# Altium footprint library SAMA5D27-SOM1-MFG-03.PcbLib: 21 footprints (part 2 of 2)
Each footprint in its own frame and in the unit in brackets; x right, y up, seen from the top. Pads: shape width x height; smd on the part's side, far side on the other; paste and mask are expansions set on the pad; w line width, h text height; cw(c..) or ccw(c..) is an arc to the next point about the centre after c.
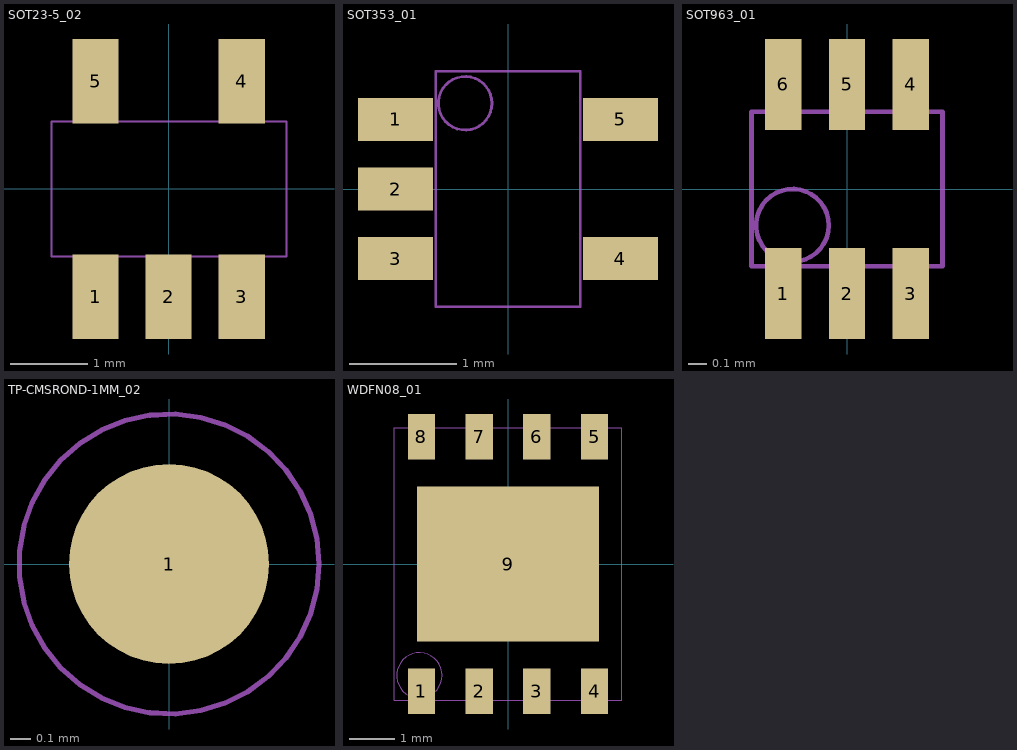
[diagram p1: the footprints below, top view; thin cyan lines are the x and y axes]

## SOT23-5_02 [mm] "SOT23-5_02"
pads (5):
  rect 0.6x1.1 smd: 1(-0.95,-1.405) 2(0,-1.405) 3(0.95,-1.405) 4(0.95,1.395) 5(-0.95,1.395)
Mechanical 16:
  lines w0.025: -1.52,-0.88 1.53,-0.88 1.53,0.87 -1.52,0.87 -1.52,-0.88
Mechanical 29:
  text "1" at -0.95,-1.005 h0.5
  text "3" at 0.95,-1.005 h0.5
  text "2" at 0,-1.005 h0.5
  text "4" at 0.95,1.795 h0.5
  text "5" at -0.95,1.795 h0.5

## SOT353_01 [mm] "SOT353_01"
pads (5):
  rect 0.7x0.4 smd: 1(-1.05,0.65) 2(-1.05,0) 3(-1.05,-0.65) 4(1.05,-0.65) 5(1.05,0.65)
Mechanical 16:
  circle w0.025: c-0.4,0.8 r0.25
  lines w0.025: -0.675,-1.1 -0.675,1.1 0,1.1 0.675,1.1 0.675,-1.1 -0.675,-1.1
Mechanical 29:
  text "1" at -1.697,0.125 h0.64
  text "3" at -1.697,-1.525 h0.64
  text "2" at -1.697,-0.726 h0.64
  text "4" at 2.053,-1.525 h0.64
  text "5" at 2.053,-0.125 h0.64

## SOT963_01 [mm] "SOT963_01"
pads (6):
  rect 0.2x0.5 smd: 1(-0.35,-0.575) 2(0,-0.575) 3(0.35,-0.575) 4(0.35,0.575) 5(0,0.575) 6(-0.35,0.575)
Mechanical 16:
  circle w0.025: c-0.3,-0.2 r0.2
  lines w0.025: -0.525,-0.425 -0.525,0.425 0.525,0.425 0.525,-0.425 -0.525,-0.425
Mechanical 29:
  text "4" at 0.553,1.383 h0.5
  text "1" at -0.197,-1.217 h0.5
  text "3" at 0.503,-1.217 h0.5
  text "5" at 0.203,1.383 h0.5
  text "6" at -0.147,1.383 h0.5
  text "2" at 0.153,-1.217 h0.5

## TP-CMSROND-1MM_02 [mm] "TP-CMSROND-1MM_02"
pads (1):
  round 1 smd: 1(0,0)
Mechanical 16:
  circle w0.025: c0,0 r0.75
Mechanical 29:
  text "1" at -2.94,0 h0.5

## WDFN08_01 [mm] "WDFN08_01"
pads (9):
  rect 0.6x1 smd: 1(-1.905,-2.8) 2(-0.635,-2.8) 3(0.635,-2.8) 4(1.905,-2.8) 5(1.905,2.8) 6(0.635,2.8) 7(-0.635,2.8) 8(-1.905,2.8)
  rect 4x3.4 smd: 9(0,0)
Mechanical 16:
  circle w0.025: c-1.95,-2.45 r0.5
  lines w0.025: -2.5,-3 2.5,-3 2.5,3 -2.5,3 -2.5,-3
Mechanical 29:
  text "4" at 2.205,-3.162 h0.64
  text "1" at -1.605,-3.162 h0.64
  text "8" at -1.605,4.588 h0.64
  text "2" at -0.335,-3.162 h0.64
  text "5" at 2.205,4.588 h0.64
  text "3" at 0.935,-3.162 h0.64
  text "7" at -0.335,4.588 h0.64
  text "6" at 0.935,4.588 h0.64
  text "9" at -1.27,0.508 h0.64